# Altium schematic symbol library HF15V.Schlib: 1 symbol
Pins are listed as number, name and electrical type; pins without a type are passive.

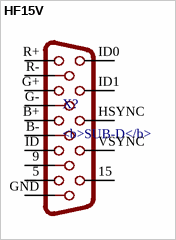
[diagram p0: symbol HF15V]

## HF15V
designator X?, comment <b>SUB-D</b>
OC_FARNELL: unknown; OC_NEWARK: unknown
footprint HDF15V
pins: 5, 9, 15, B+ 3, B- 8, G+ 2, G- 7, GND 10, HSYNC 13, ID 4, ID0 11, ID1 12, R+ 1, R- 6, VSYNC 14